# Altium schematic symbol library Diode.SchLib: 578 symbols (part 4 of 4)
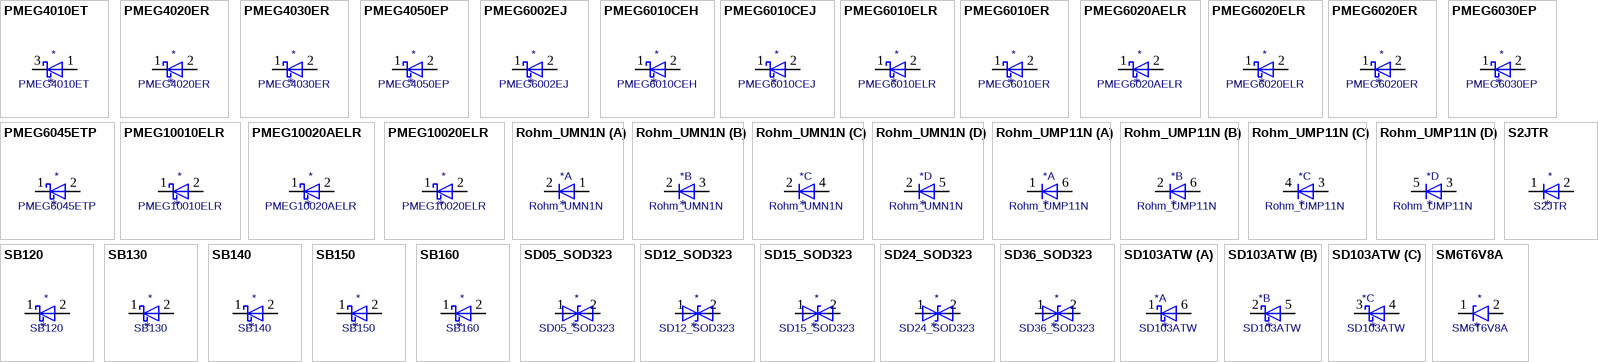
[diagram p18: symbols PMEG4010ET to SM6T6V8A]

## SB150
designator *  value SB150
ki_keywords: diode Schottky; ki_description: 50V 1A Schottky Barrier Rectifier Diode, DO-41; ki_fp_filters: D*DO?41*; Footprint: Diode_THT:D_DO-41_SOD81_P10.16mm_Horizontal; Supplier: http://www.diodes.com/_files/datasheets/ds23022.pdf
footprint D_DO-41_SOD81_P10.16mm_Horizontal
pins: 1 K, 2 A

## SB160
designator *  value SB160
ki_keywords: diode Schottky; ki_description: 60V 1A Schottky Barrier Rectifier Diode, DO-41; ki_fp_filters: D*DO?41*; Footprint: Diode_THT:D_DO-41_SOD81_P10.16mm_Horizontal; Supplier: http://www.diodes.com/_files/datasheets/ds23022.pdf
footprint D_DO-41_SOD81_P10.16mm_Horizontal
pins: 1 K, 2 A

## SD05_SOD323
designator *  value SD05_SOD323
ki_keywords: transient voltage suppressor thyrector transil; ki_description: 5V, 450W Discrete Bidirectional TVS Diode, SOD-323; ki_fp_filters: D?SOD?323*; Footprint: Diode_SMD:D_SOD-323; Supplier: https://www.littelfuse.com/~/media/electronics/datasheets/tvs_diode_arrays/littelfuse_tvs_diode_array_sd_c_datasheet.pdf.pdf
footprint D_SOD-323
pins: 1 A1, 2 A2

## SD12_SOD323
designator *  value SD12_SOD323
ki_keywords: transient voltage suppressor thyrector transil; ki_description: 12V, 450W Discrete Bidirectional TVS Diode, SOD-323; ki_fp_filters: D?SOD?323*; Footprint: Diode_SMD:D_SOD-323; Supplier: https://www.littelfuse.com/~/media/electronics/datasheets/tvs_diode_arrays/littelfuse_tvs_diode_array_sd_c_datasheet.pdf.pdf
footprint D_SOD-323
pins: 1 A1, 2 A2

## SD15_SOD323
designator *  value SD15_SOD323
ki_keywords: transient voltage suppressor thyrector transil; ki_description: 15V, 450W Discrete Bidirectional TVS Diode, SOD-323; ki_fp_filters: D?SOD?323*; Footprint: Diode_SMD:D_SOD-323; Supplier: https://www.littelfuse.com/~/media/electronics/datasheets/tvs_diode_arrays/littelfuse_tvs_diode_array_sd_c_datasheet.pdf.pdf
footprint D_SOD-323
pins: 1 A1, 2 A2

## SD24_SOD323
designator *  value SD24_SOD323
ki_keywords: transient voltage suppressor thyrector transil; ki_description: 24V, 450W Discrete Bidirectional TVS Diode, SOD-323; ki_fp_filters: D?SOD?323*; Footprint: Diode_SMD:D_SOD-323; Supplier: https://www.littelfuse.com/~/media/electronics/datasheets/tvs_diode_arrays/littelfuse_tvs_diode_array_sd_c_datasheet.pdf.pdf
footprint D_SOD-323
pins: 1 A1, 2 A2

## SD36_SOD323
designator *  value SD36_SOD323
ki_keywords: transient voltage suppressor thyrector transil; ki_description: 36V, 450W Discrete Bidirectional TVS Diode, SOD-323; ki_fp_filters: D?SOD?323*; Footprint: Diode_SMD:D_SOD-323; Supplier: https://www.littelfuse.com/~/media/electronics/datasheets/tvs_diode_arrays/littelfuse_tvs_diode_array_sd_c_datasheet.pdf.pdf
footprint D_SOD-323
pins: 1 A1, 2 A2

## SD103ATW
designator *  value SD103ATW
ki_keywords: schottky barrier diode array; ki_description: Schottky Barrier Diode Array, SOT-363; ki_fp_filters: SOT?363*; Footprint: Package_TO_SOT_SMD:SOT-363_SC-70-6; Supplier: https://www.diodes.com/assets/Datasheets/ds30374.pdf
footprint SOT-363_SC-70-6
part A pins: 1 K, 6 A
part B pins: 2 K, 5 A
part C pins: 3 K, 4 A

## SM6T6V8A
designator *  value SM6T6V8A
ki_keywords: diode TVS voltage suppressor; ki_description: 600W unidirectional Transil Transient Voltage Suppressor, 6.8Vrwm, DO-214AA; ki_fp_filters: D*SMB*; Footprint: Diode_SMD:D_SMB; Supplier: https://www.st.com/resource/en/datasheet/sm6t.pdf
footprint D_SMB
pins: 1 A1, 2 A2

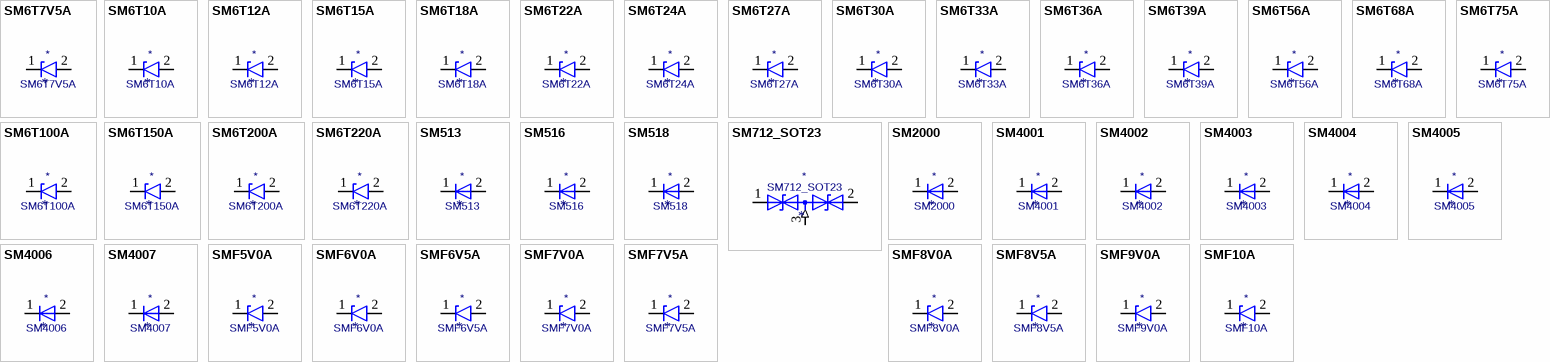
[diagram p13: symbols SM6T7V5A to SMF10A]

## SM6T7V5A
designator *  value SM6T7V5A
ki_keywords: diode TVS voltage suppressor; ki_description: 600W unidirectional Transil Transient Voltage Suppressor, 7.5Vrwm, DO-214AA; ki_fp_filters: D*SMB*; Footprint: Diode_SMD:D_SMB; Supplier: https://www.st.com/resource/en/datasheet/sm6t.pdf
footprint D_SMB
pins: 1 A1, 2 A2

## SM6T10A
designator *  value SM6T10A
ki_keywords: diode TVS voltage suppressor; ki_description: 600W unidirectional Transil Transient Voltage Suppressor, 10Vrwm, DO-214AA; ki_fp_filters: D*SMB*; Footprint: Diode_SMD:D_SMB; Supplier: https://www.st.com/resource/en/datasheet/sm6t.pdf
footprint D_SMB
pins: 1 A1, 2 A2

## SM6T12A
designator *  value SM6T12A
ki_keywords: diode TVS voltage suppressor; ki_description: 600W unidirectional Transil Transient Voltage Suppressor, 12Vrwm, DO-214AA; ki_fp_filters: D*SMB*; Footprint: Diode_SMD:D_SMB; Supplier: https://www.st.com/resource/en/datasheet/sm6t.pdf
footprint D_SMB
pins: 1 A1, 2 A2

## SM6T15A
designator *  value SM6T15A
ki_keywords: diode TVS voltage suppressor; ki_description: 600W unidirectional Transil Transient Voltage Suppressor, 15Vrwm, DO-214AA; ki_fp_filters: D*SMB*; Footprint: Diode_SMD:D_SMB; Supplier: https://www.st.com/resource/en/datasheet/sm6t.pdf
footprint D_SMB
pins: 1 A1, 2 A2

## SM6T18A
designator *  value SM6T18A
ki_keywords: diode TVS voltage suppressor; ki_description: 600W unidirectional Transil Transient Voltage Suppressor, 18Vrwm, DO-214AA; ki_fp_filters: D*SMB*; Footprint: Diode_SMD:D_SMB; Supplier: https://www.st.com/resource/en/datasheet/sm6t.pdf
footprint D_SMB
pins: 1 A1, 2 A2

## SM6T22A
designator *  value SM6T22A
ki_keywords: diode TVS voltage suppressor; ki_description: 600W unidirectional Transil Transient Voltage Suppressor, 22Vrwm, DO-214AA; ki_fp_filters: D*SMB*; Footprint: Diode_SMD:D_SMB; Supplier: https://www.st.com/resource/en/datasheet/sm6t.pdf
footprint D_SMB
pins: 1 A1, 2 A2

## SM6T24A
designator *  value SM6T24A
ki_keywords: diode TVS voltage suppressor; ki_description: 600W unidirectional Transil Transient Voltage Suppressor, 24Vrwm, DO-214AA; ki_fp_filters: D*SMB*; Footprint: Diode_SMD:D_SMB; Supplier: https://www.st.com/resource/en/datasheet/sm6t.pdf
footprint D_SMB
pins: 1 A1, 2 A2

## SM6T27A
designator *  value SM6T27A
ki_keywords: diode TVS voltage suppressor; ki_description: 600W unidirectional Transil Transient Voltage Suppressor, 27Vrwm, DO-214AA; ki_fp_filters: D*SMB*; Footprint: Diode_SMD:D_SMB; Supplier: https://www.st.com/resource/en/datasheet/sm6t.pdf
footprint D_SMB
pins: 1 A1, 2 A2

## SM6T30A
designator *  value SM6T30A
ki_keywords: diode TVS voltage suppressor; ki_description: 600W unidirectional Transil Transient Voltage Suppressor, 30Vrwm, DO-214AA; ki_fp_filters: D*SMB*; Footprint: Diode_SMD:D_SMB; Supplier: https://www.st.com/resource/en/datasheet/sm6t.pdf
footprint D_SMB
pins: 1 A1, 2 A2

## SM6T33A
designator *  value SM6T33A
ki_keywords: diode TVS voltage suppressor; ki_description: 600W unidirectional Transil Transient Voltage Suppressor, 33Vrwm, DO-214AA; ki_fp_filters: D*SMB*; Footprint: Diode_SMD:D_SMB; Supplier: https://www.st.com/resource/en/datasheet/sm6t.pdf
footprint D_SMB
pins: 1 A1, 2 A2

## SM6T36A
designator *  value SM6T36A
ki_keywords: diode TVS voltage suppressor; ki_description: 600W unidirectional Transil Transient Voltage Suppressor, 36Vrwm, DO-214AA; ki_fp_filters: D*SMB*; Footprint: Diode_SMD:D_SMB; Supplier: https://www.st.com/resource/en/datasheet/sm6t.pdf
footprint D_SMB
pins: 1 A1, 2 A2

## SM6T39A
designator *  value SM6T39A
ki_keywords: diode TVS voltage suppressor; ki_description: 600W unidirectional Transil Transient Voltage Suppressor, 39Vrwm, DO-214AA; ki_fp_filters: D*SMB*; Footprint: Diode_SMD:D_SMB; Supplier: https://www.st.com/resource/en/datasheet/sm6t.pdf
footprint D_SMB
pins: 1 A1, 2 A2

## SM6T56A
designator *  value SM6T56A
ki_keywords: diode TVS voltage suppressor; ki_description: 600W unidirectional Transil Transient Voltage Suppressor, 56Vrwm, DO-214AA; ki_fp_filters: D*SMB*; Footprint: Diode_SMD:D_SMB; Supplier: https://www.st.com/resource/en/datasheet/sm6t.pdf
footprint D_SMB
pins: 1 A1, 2 A2

## SM6T68A
designator *  value SM6T68A
ki_keywords: diode TVS voltage suppressor; ki_description: 600W unidirectional Transil Transient Voltage Suppressor, 68Vrwm, DO-214AA; ki_fp_filters: D*SMB*; Footprint: Diode_SMD:D_SMB; Supplier: https://www.st.com/resource/en/datasheet/sm6t.pdf
footprint D_SMB
pins: 1 A1, 2 A2

## SM6T75A
designator *  value SM6T75A
ki_keywords: diode TVS voltage suppressor; ki_description: 600W unidirectional Transil Transient Voltage Suppressor, 75Vrwm, DO-214AA; ki_fp_filters: D*SMB*; Footprint: Diode_SMD:D_SMB; Supplier: https://www.st.com/resource/en/datasheet/sm6t.pdf
footprint D_SMB
pins: 1 A1, 2 A2

## SM6T100A
designator *  value SM6T100A
ki_keywords: diode TVS voltage suppressor; ki_description: 600W unidirectional Transil Transient Voltage Suppressor, 100Vrwm, DO-214AA; ki_fp_filters: D*SMB*; Footprint: Diode_SMD:D_SMB; Supplier: https://www.st.com/resource/en/datasheet/sm6t.pdf
footprint D_SMB
pins: 1 A1, 2 A2

## SM6T150A
designator *  value SM6T150A
ki_keywords: diode TVS voltage suppressor; ki_description: 600W unidirectional Transil Transient Voltage Suppressor, 150Vrwm, DO-214AA; ki_fp_filters: D*SMB*; Footprint: Diode_SMD:D_SMB; Supplier: https://www.st.com/resource/en/datasheet/sm6t.pdf
footprint D_SMB
pins: 1 A1, 2 A2

## SM6T200A
designator *  value SM6T200A
ki_keywords: diode TVS voltage suppressor; ki_description: 600W unidirectional Transil Transient Voltage Suppressor, 200Vrwm, DO-214AA; ki_fp_filters: D*SMB*; Footprint: Diode_SMD:D_SMB; Supplier: https://www.st.com/resource/en/datasheet/sm6t.pdf
footprint D_SMB
pins: 1 A1, 2 A2

## SM6T220A
designator *  value SM6T220A
ki_keywords: diode TVS voltage suppressor; ki_description: 600W unidirectional Transil Transient Voltage Suppressor, 220Vrwm, DO-214AA; ki_fp_filters: D*SMB*; Footprint: Diode_SMD:D_SMB; Supplier: https://www.st.com/resource/en/datasheet/sm6t.pdf
footprint D_SMB
pins: 1 A1, 2 A2

## SM513
designator *  value SM513
ki_keywords: diode; ki_description: 130V 1A General Purpose Rectifier Diode, MELF; ki_fp_filters: D*MELF*; Footprint: Diode_SMD:D_MELF; Supplier: http://cdn-reichelt.de/documents/datenblatt/A400/SMD1N400%23DIO.pdf
footprint D_MELF
pins: 1 K, 2 A

## SM516
designator *  value SM516
ki_keywords: diode; ki_description: 1600V 1A General Purpose Rectifier Diode, MELF; ki_fp_filters: D*MELF*; Footprint: Diode_SMD:D_MELF; Supplier: http://cdn-reichelt.de/documents/datenblatt/A400/SMD1N400%23DIO.pdf
footprint D_MELF
pins: 1 K, 2 A

## SM518
designator *  value SM518
ki_keywords: diode; ki_description: 1800V 1A General Purpose Rectifier Diode, MELF; ki_fp_filters: D*MELF*; Footprint: Diode_SMD:D_MELF; Supplier: http://cdn-reichelt.de/documents/datenblatt/A400/SMD1N400%23DIO.pdf
footprint D_MELF
pins: 1 K, 2 A

## SM712_SOT23
designator *  value SM712_SOT23
ki_keywords: transient voltage suppressor thyrector transil; ki_description: 7V/12V, 600W Asymmetrical TVS Diode Array, SOT-23; ki_fp_filters: SOT?23*; Footprint: Package_TO_SOT_SMD:SOT-23; Supplier: https://www.littelfuse.com/~/media/electronics/datasheets/tvs_diode_arrays/littelfuse_tvs_diode_array_sm712_datasheet.pdf.pdf
footprint SOT-23
pins: 1 A1, 2 A2, 3 common (in)

## SM2000
designator *  value SM2000
ki_keywords: diode; ki_description: 2000V 1A General Purpose Rectifier Diode, MELF; ki_fp_filters: D*MELF*; Footprint: Diode_SMD:D_MELF; Supplier: http://cdn-reichelt.de/documents/datenblatt/A400/SMD1N400%23DIO.pdf
footprint D_MELF
pins: 1 K, 2 A

## SM4001
designator *  value SM4001
ki_keywords: diode; ki_description: 50V 1A General Purpose Rectifier Diode, MELF; ki_fp_filters: D*MELF*; Footprint: Diode_SMD:D_MELF; Supplier: http://cdn-reichelt.de/documents/datenblatt/A400/SMD1N400%23DIO.pdf
footprint D_MELF
pins: 1 K, 2 A

## SM4002
designator *  value SM4002
ki_keywords: diode; ki_description: 100V 1A General Purpose Rectifier Diode, MELF; ki_fp_filters: D*MELF*; Footprint: Diode_SMD:D_MELF; Supplier: http://cdn-reichelt.de/documents/datenblatt/A400/SMD1N400%23DIO.pdf
footprint D_MELF
pins: 1 K, 2 A

## SM4003
designator *  value SM4003
ki_keywords: diode; ki_description: 200V 1A General Purpose Rectifier Diode, MELF; ki_fp_filters: D*MELF*; Footprint: Diode_SMD:D_MELF; Supplier: http://cdn-reichelt.de/documents/datenblatt/A400/SMD1N400%23DIO.pdf
footprint D_MELF
pins: 1 K, 2 A

## SM4004
designator *  value SM4004
ki_keywords: diode; ki_description: 400V 1A General Purpose Rectifier Diode, MELF; ki_fp_filters: D*MELF*; Footprint: Diode_SMD:D_MELF; Supplier: http://cdn-reichelt.de/documents/datenblatt/A400/SMD1N400%23DIO.pdf
footprint D_MELF
pins: 1 K, 2 A

## SM4005
designator *  value SM4005
ki_keywords: diode; ki_description: 600V 1A General Purpose Rectifier Diode, MELF; ki_fp_filters: D*MELF*; Footprint: Diode_SMD:D_MELF; Supplier: http://cdn-reichelt.de/documents/datenblatt/A400/SMD1N400%23DIO.pdf
footprint D_MELF
pins: 1 K, 2 A

## SM4006
designator *  value SM4006
ki_keywords: diode; ki_description: 800V 1A General Purpose Rectifier Diode, MELF; ki_fp_filters: D*MELF*; Footprint: Diode_SMD:D_MELF; Supplier: http://cdn-reichelt.de/documents/datenblatt/A400/SMD1N400%23DIO.pdf
footprint D_MELF
pins: 1 K, 2 A

## SM4007
designator *  value SM4007
ki_keywords: diode; ki_description: 1000V 1A General Purpose Rectifier Diode, MELF; ki_fp_filters: D*MELF*; Footprint: Diode_SMD:D_MELF; Supplier: http://cdn-reichelt.de/documents/datenblatt/A400/SMD1N400%23DIO.pdf
footprint D_MELF
pins: 1 K, 2 A

## SMF5V0A
designator *  value SMF5V0A
ki_keywords: diode TVS voltage suppressor; ki_description: 200W unidirectional Transil Transient Voltage Suppressor, 5Vrwm, SMF; ki_fp_filters: D*SMF*; Footprint: Diode_SMD:D_SMF; Supplier: https://www.vishay.com/doc?85881
footprint D_SMF
pins: 1 A1, 2 A2

## SMF6V0A
designator *  value SMF6V0A
ki_keywords: diode TVS voltage suppressor; ki_description: 200W unidirectional Transil Transient Voltage Suppressor, 6Vrwm, SMF; ki_fp_filters: D*SMF*; Footprint: Diode_SMD:D_SMF; Supplier: https://www.vishay.com/doc?85881
footprint D_SMF
pins: 1 A1, 2 A2

## SMF6V5A
designator *  value SMF6V5A
ki_keywords: diode TVS voltage suppressor; ki_description: 200W unidirectional Transil Transient Voltage Suppressor, 6.5Vrwm, SMF; ki_fp_filters: D*SMF*; Footprint: Diode_SMD:D_SMF; Supplier: https://www.vishay.com/doc?85881
footprint D_SMF
pins: 1 A1, 2 A2

## SMF7V0A
designator *  value SMF7V0A
ki_keywords: diode TVS voltage suppressor; ki_description: 200W unidirectional Transil Transient Voltage Suppressor, 7Vrwm, SMF; ki_fp_filters: D*SMF*; Footprint: Diode_SMD:D_SMF; Supplier: https://www.vishay.com/doc?85881
footprint D_SMF
pins: 1 A1, 2 A2

## SMF7V5A
designator *  value SMF7V5A
ki_keywords: diode TVS voltage suppressor; ki_description: 200W unidirectional Transil Transient Voltage Suppressor, 7.5Vrwm, SMF; ki_fp_filters: D*SMF*; Footprint: Diode_SMD:D_SMF; Supplier: https://www.vishay.com/doc?85881
footprint D_SMF
pins: 1 A1, 2 A2

## SMF8V0A
designator *  value SMF8V0A
ki_keywords: diode TVS voltage suppressor; ki_description: 200W unidirectional Transil Transient Voltage Suppressor, 8Vrwm, SMF; ki_fp_filters: D*SMF*; Footprint: Diode_SMD:D_SMF; Supplier: https://www.vishay.com/doc?85881
footprint D_SMF
pins: 1 A1, 2 A2

## SMF8V5A
designator *  value SMF8V5A
ki_keywords: diode TVS voltage suppressor; ki_description: 200W unidirectional Transil Transient Voltage Suppressor, 8.5Vrwm, SMF; ki_fp_filters: D*SMF*; Footprint: Diode_SMD:D_SMF; Supplier: https://www.vishay.com/doc?85881
footprint D_SMF
pins: 1 A1, 2 A2

## SMF9V0A
designator *  value SMF9V0A
ki_keywords: diode TVS voltage suppressor; ki_description: 200W unidirectional Transil Transient Voltage Suppressor, 9Vrwm, SMF; ki_fp_filters: D*SMF*; Footprint: Diode_SMD:D_SMF; Supplier: https://www.vishay.com/doc?85881
footprint D_SMF
pins: 1 A1, 2 A2

## SMF10A
designator *  value SMF10A
ki_keywords: diode TVS voltage suppressor; ki_description: 200W unidirectional Transil Transient Voltage Suppressor, 10Vrwm, SMF; ki_fp_filters: D*SMF*; Footprint: Diode_SMD:D_SMF; Supplier: https://www.vishay.com/doc?85881
footprint D_SMF
pins: 1 A1, 2 A2

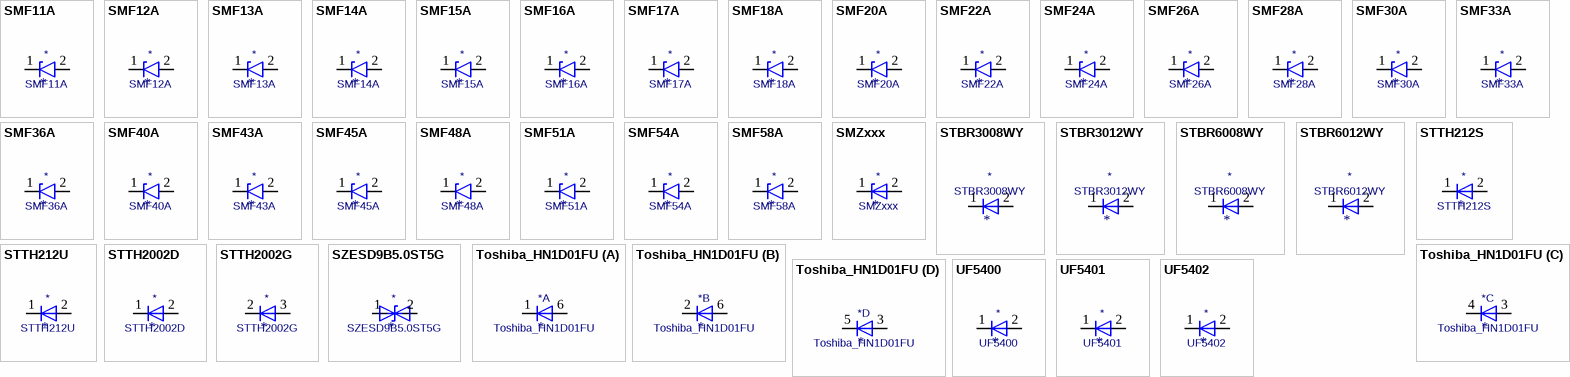
[diagram p14: symbols SMF11A to UF5402]

## SMF11A
designator *  value SMF11A
ki_keywords: diode TVS voltage suppressor; ki_description: 200W unidirectional Transil Transient Voltage Suppressor, 11Vrwm, SMF; ki_fp_filters: D*SMF*; Footprint: Diode_SMD:D_SMF; Supplier: https://www.vishay.com/doc?85881
footprint D_SMF
pins: 1 A1, 2 A2

## SMF12A
designator *  value SMF12A
ki_keywords: diode TVS voltage suppressor; ki_description: 200W unidirectional Transil Transient Voltage Suppressor, 12Vrwm, SMF; ki_fp_filters: D*SMF*; Footprint: Diode_SMD:D_SMF; Supplier: https://www.vishay.com/doc?85881
footprint D_SMF
pins: 1 A1, 2 A2

## SMF13A
designator *  value SMF13A
ki_keywords: diode TVS voltage suppressor; ki_description: 200W unidirectional Transil Transient Voltage Suppressor, 13Vrwm, SMF; ki_fp_filters: D*SMF*; Footprint: Diode_SMD:D_SMF; Supplier: https://www.vishay.com/doc?85881
footprint D_SMF
pins: 1 A1, 2 A2

## SMF14A
designator *  value SMF14A
ki_keywords: diode TVS voltage suppressor; ki_description: 200W unidirectional Transil Transient Voltage Suppressor, 14Vrwm, SMF; ki_fp_filters: D*SMF*; Footprint: Diode_SMD:D_SMF; Supplier: https://www.vishay.com/doc?85881
footprint D_SMF
pins: 1 A1, 2 A2

## SMF15A
designator *  value SMF15A
ki_keywords: diode TVS voltage suppressor; ki_description: 200W unidirectional Transil Transient Voltage Suppressor, 15Vrwm, SMF; ki_fp_filters: D*SMF*; Footprint: Diode_SMD:D_SMF; Supplier: https://www.vishay.com/doc?85881
footprint D_SMF
pins: 1 A1, 2 A2

## SMF16A
designator *  value SMF16A
ki_keywords: diode TVS voltage suppressor; ki_description: 200W unidirectional Transil Transient Voltage Suppressor, 16Vrwm, SMF; ki_fp_filters: D*SMF*; Footprint: Diode_SMD:D_SMF; Supplier: https://www.vishay.com/doc?85881
footprint D_SMF
pins: 1 A1, 2 A2

## SMF17A
designator *  value SMF17A
ki_keywords: diode TVS voltage suppressor; ki_description: 200W unidirectional Transil Transient Voltage Suppressor, 17Vrwm, SMF; ki_fp_filters: D*SMF*; Footprint: Diode_SMD:D_SMF; Supplier: https://www.vishay.com/doc?85881
footprint D_SMF
pins: 1 A1, 2 A2

## SMF18A
designator *  value SMF18A
ki_keywords: diode TVS voltage suppressor; ki_description: 200W unidirectional Transil Transient Voltage Suppressor, 18Vrwm, SMF; ki_fp_filters: D*SMF*; Footprint: Diode_SMD:D_SMF; Supplier: https://www.vishay.com/doc?85881
footprint D_SMF
pins: 1 A1, 2 A2

## SMF20A
designator *  value SMF20A
ki_keywords: diode TVS voltage suppressor; ki_description: 200W unidirectional Transil Transient Voltage Suppressor, 20Vrwm, SMF; ki_fp_filters: D*SMF*; Footprint: Diode_SMD:D_SMF; Supplier: https://www.vishay.com/doc?85881
footprint D_SMF
pins: 1 A1, 2 A2

## SMF22A
designator *  value SMF22A
ki_keywords: diode TVS voltage suppressor; ki_description: 200W unidirectional Transil Transient Voltage Suppressor, 22Vrwm, SMF; ki_fp_filters: D*SMF*; Footprint: Diode_SMD:D_SMF; Supplier: https://www.vishay.com/doc?85881
footprint D_SMF
pins: 1 A1, 2 A2

## SMF24A
designator *  value SMF24A
ki_keywords: diode TVS voltage suppressor; ki_description: 200W unidirectional Transil Transient Voltage Suppressor, 24Vrwm, SMF; ki_fp_filters: D*SMF*; Footprint: Diode_SMD:D_SMF; Supplier: https://www.vishay.com/doc?85881
footprint D_SMF
pins: 1 A1, 2 A2

## SMF26A
designator *  value SMF26A
ki_keywords: diode TVS voltage suppressor; ki_description: 200W unidirectional Transil Transient Voltage Suppressor, 26Vrwm, SMF; ki_fp_filters: D*SMF*; Footprint: Diode_SMD:D_SMF; Supplier: https://www.vishay.com/doc?85881
footprint D_SMF
pins: 1 A1, 2 A2

## SMF28A
designator *  value SMF28A
ki_keywords: diode TVS voltage suppressor; ki_description: 200W unidirectional Transil Transient Voltage Suppressor, 28Vrwm, SMF; ki_fp_filters: D*SMF*; Footprint: Diode_SMD:D_SMF; Supplier: https://www.vishay.com/doc?85881
footprint D_SMF
pins: 1 A1, 2 A2

## SMF30A
designator *  value SMF30A
ki_keywords: diode TVS voltage suppressor; ki_description: 200W unidirectional Transil Transient Voltage Suppressor, 30Vrwm, SMF; ki_fp_filters: D*SMF*; Footprint: Diode_SMD:D_SMF; Supplier: https://www.vishay.com/doc?85881
footprint D_SMF
pins: 1 A1, 2 A2

## SMF33A
designator *  value SMF33A
ki_keywords: diode TVS voltage suppressor; ki_description: 200W unidirectional Transil Transient Voltage Suppressor, 33Vrwm, SMF; ki_fp_filters: D*SMF*; Footprint: Diode_SMD:D_SMF; Supplier: https://www.vishay.com/doc?85881
footprint D_SMF
pins: 1 A1, 2 A2

## SMF36A
designator *  value SMF36A
ki_keywords: diode TVS voltage suppressor; ki_description: 200W unidirectional Transil Transient Voltage Suppressor, 36Vrwm, SMF; ki_fp_filters: D*SMF*; Footprint: Diode_SMD:D_SMF; Supplier: https://www.vishay.com/doc?85881
footprint D_SMF
pins: 1 A1, 2 A2

## SMF40A
designator *  value SMF40A
ki_keywords: diode TVS voltage suppressor; ki_description: 200W unidirectional Transil Transient Voltage Suppressor, 40Vrwm, SMF; ki_fp_filters: D*SMF*; Footprint: Diode_SMD:D_SMF; Supplier: https://www.vishay.com/doc?85881
footprint D_SMF
pins: 1 A1, 2 A2

## SMF43A
designator *  value SMF43A
ki_keywords: diode TVS voltage suppressor; ki_description: 200W unidirectional Transil Transient Voltage Suppressor, 43Vrwm, SMF; ki_fp_filters: D*SMF*; Footprint: Diode_SMD:D_SMF; Supplier: https://www.vishay.com/doc?85881
footprint D_SMF
pins: 1 A1, 2 A2

## SMF45A
designator *  value SMF45A
ki_keywords: diode TVS voltage suppressor; ki_description: 200W unidirectional Transil Transient Voltage Suppressor, 45Vrwm, SMF; ki_fp_filters: D*SMF*; Footprint: Diode_SMD:D_SMF; Supplier: https://www.vishay.com/doc?85881
footprint D_SMF
pins: 1 A1, 2 A2

## SMF48A
designator *  value SMF48A
ki_keywords: diode TVS voltage suppressor; ki_description: 200W unidirectional Transil Transient Voltage Suppressor, 48Vrwm, SMF; ki_fp_filters: D*SMF*; Footprint: Diode_SMD:D_SMF; Supplier: https://www.vishay.com/doc?85881
footprint D_SMF
pins: 1 A1, 2 A2

## SMF51A
designator *  value SMF51A
ki_keywords: diode TVS voltage suppressor; ki_description: 200W unidirectional Transil Transient Voltage Suppressor, 51Vrwm, SMF; ki_fp_filters: D*SMF*; Footprint: Diode_SMD:D_SMF; Supplier: https://www.vishay.com/doc?85881
footprint D_SMF
pins: 1 A1, 2 A2

## SMF54A
designator *  value SMF54A
ki_keywords: diode TVS voltage suppressor; ki_description: 200W unidirectional Transil Transient Voltage Suppressor, 54Vrwm, SMF; ki_fp_filters: D*SMF*; Footprint: Diode_SMD:D_SMF; Supplier: https://www.vishay.com/doc?85881
footprint D_SMF
pins: 1 A1, 2 A2

## SMF58A
designator *  value SMF58A
ki_keywords: diode TVS voltage suppressor; ki_description: 200W unidirectional Transil Transient Voltage Suppressor, 58Vrwm, SMF; ki_fp_filters: D*SMF*; Footprint: Diode_SMD:D_SMF; Supplier: https://www.vishay.com/doc?85881
footprint D_SMF
pins: 1 A1, 2 A2

## SMZxxx
designator *  value SMZxxx
ki_keywords: zener diode; ki_description: 2000mW Zener Diode, MELF; ki_fp_filters: D*MELF*; Footprint: Diode_SMD:D_MELF; Supplier: https://diotec.com/tl_files/diotec/files/pdf/datasheets/smz1.pdf
footprint D_MELF
pins: 1 K, 2 A

## STBR3008WY
designator *  value STBR3008WY
ki_keywords: AEC-Q101; ki_description: 800V, 30A, General Purpose Rectifier Diode, DO-247; ki_fp_filters: D*DO*247*; Footprint: Diode_THT:D_DO-247_Vertical; Supplier: https://www.st.com/resource/en/datasheet/stbr3008-y.pdf
footprint D_DO-247_Vertical
pins: 1 K, 2 A

## STBR3012WY
designator *  value STBR3012WY
ki_keywords: AEC-Q101; ki_description: 1200V, 30A, General Purpose Rectifier Diode, DO-247; ki_fp_filters: D*DO*247*; Footprint: Diode_THT:D_DO-247_Vertical; Supplier: https://www.st.com/resource/en/datasheet/stbr3012-y.pdf
footprint D_DO-247_Vertical
pins: 1 K, 2 A

## STBR6008WY
designator *  value STBR6008WY
ki_keywords: AEC-Q101; ki_description: 800V, 60A, General Purpose Rectifier Diode, DO-247; ki_fp_filters: D*DO*247*; Footprint: Diode_THT:D_DO-247_Vertical; Supplier: https://www.st.com/resource/en/datasheet/stbr6008-y.pdf
footprint D_DO-247_Vertical
pins: 1 K, 2 A

## STBR6012WY
designator *  value STBR6012WY
ki_keywords: AEC-Q101; ki_description: 1200V, 60A, General Purpose Rectifier Diode, DO-247; ki_fp_filters: D*DO*247*; Footprint: Diode_THT:D_DO-247_Vertical; Supplier: https://www.st.com/resource/en/datasheet/stbr6012-y.pdf
footprint D_DO-247_Vertical
pins: 1 K, 2 A

## STTH212S
designator *  value STTH212S
ki_keywords: diode; ki_description: 1200V 2A High Voltage Ultrafast Diode, SMC; ki_fp_filters: D?SMC*; Footprint: Diode_SMD:D_SMC; Supplier: https://www.st.com/resource/en/datasheet/stth212.pdf
footprint D_SMC
pins: 1 K, 2 A

## STTH212U
designator *  value STTH212U
ki_keywords: diode; ki_description: 1200V 2A High Voltage Ultrafast Diode, SMB; ki_fp_filters: *D?SMB*; Footprint: Diode_SMD:D_SMB; Supplier: https://www.st.com/resource/en/datasheet/stth212.pdf
footprint D_SMB
pins: 1 K, 2 A

## STTH2002D
designator *  value STTH2002D
ki_keywords: diode; ki_description: 200V 20A Ultrafast Recovery Diode, TO-220; ki_fp_filters: TO?220*2*; Footprint: Package_TO_SOT_THT:TO-220-2_Vertical; Supplier: https://www.st.com/resource/en/datasheet/stth2002.pdf
footprint TO-220-2_Vertical
pins: 1 K, 2 A, 3 NC (in) hidden

## STTH2002G
designator *  value STTH2002G
ki_keywords: diode; ki_description: 200V 20A Ultrafast Recovery Diode, TO-263; ki_fp_filters: TO?263*; Footprint: Package_TO_SOT_SMD:TO-263-2; Supplier: https://www.st.com/resource/en/datasheet/stth2002.pdf
footprint TO-263-2
pins: 1 NC (in) hidden, 2 K, 3 A

## SZESD9B5.0ST5G
designator *  value SZESD9B5.0ST5G
ki_keywords: diode TVS ESD; ki_description: ESD protection diode, 5.0Vrwm, SOD-923; ki_fp_filters: D*SOD?923*; Footprint: Diode_SMD:D_SOD-923; Supplier: https://www.onsemi.com/pub/Collateral/ESD9B-D.PDF
footprint D_SOD-923
pins: 1 A1, 2 A2

## Toshiba_HN1D01FU
designator *  value Toshiba_HN1D01FU
ki_keywords: diode; ki_description: Ultra High Speed Switching Diode Array 2 pair Com A; ki_fp_filters: SOT?363*; Footprint: Package_TO_SOT_SMD:SOT-363_SC-70-6; Supplier: http://www.toshiba.com/taec/components2/Datasheet_Sync/200901/DST_HN1D01FU-TDE_EN_1882.pdf
footprint SOT-363_SC-70-6
part A pins: 1 K, 6 A
part B pins: 2 K, 6 A
part C pins: 3 A, 4 K
part D pins: 3 A, 5 K

## UF5400
designator *  value UF5400
ki_keywords: diode; ki_description: 50V 3A Soft Recovery Ultrafast Rectifier Diode, DO-201AD; ki_fp_filters: D*DO?201AD*; Footprint: Diode_THT:D_DO-201AD_P15.24mm_Horizontal; Supplier: http://www.vishay.com/docs/88756/uf5400.pdf
footprint D_DO-201AD_P15.24mm_Horizontal
pins: 1 K, 2 A

## UF5401
designator *  value UF5401
ki_keywords: diode; ki_description: 100V 3A Soft Recovery Ultrafast Rectifier Diode, DO-201AD; ki_fp_filters: D*DO?201AD*; Footprint: Diode_THT:D_DO-201AD_P15.24mm_Horizontal; Supplier: http://www.vishay.com/docs/88756/uf5400.pdf
footprint D_DO-201AD_P15.24mm_Horizontal
pins: 1 K, 2 A

## UF5402
designator *  value UF5402
ki_keywords: diode; ki_description: 200V 3A Soft Recovery Ultrafast Rectifier Diode, DO-201AD; ki_fp_filters: D*DO?201AD*; Footprint: Diode_THT:D_DO-201AD_P15.24mm_Horizontal; Supplier: http://www.vishay.com/docs/88756/uf5400.pdf
footprint D_DO-201AD_P15.24mm_Horizontal
pins: 1 K, 2 A

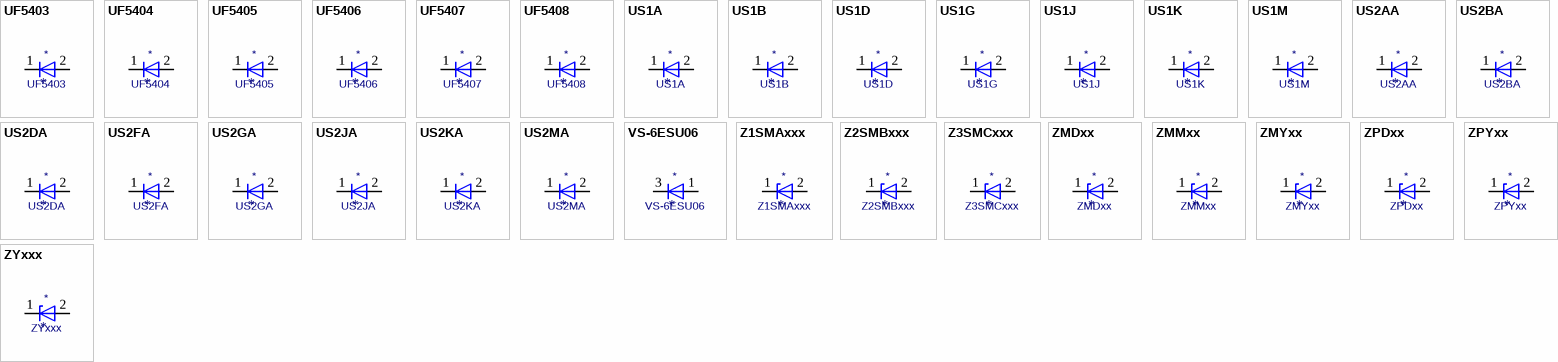
[diagram p15: symbols UF5403 to ZYxxx]

## UF5403
designator *  value UF5403
ki_keywords: diode; ki_description: 300V 3A Soft Recovery Ultrafast Rectifier Diode, DO-201AD; ki_fp_filters: D*DO?201AD*; Footprint: Diode_THT:D_DO-201AD_P15.24mm_Horizontal; Supplier: http://www.vishay.com/docs/88756/uf5400.pdf
footprint D_DO-201AD_P15.24mm_Horizontal
pins: 1 K, 2 A

## UF5404
designator *  value UF5404
ki_keywords: diode; ki_description: 400V 3A Soft Recovery Ultrafast Rectifier Diode, DO-201AD; ki_fp_filters: D*DO?201AD*; Footprint: Diode_THT:D_DO-201AD_P15.24mm_Horizontal; Supplier: http://www.vishay.com/docs/88756/uf5400.pdf
footprint D_DO-201AD_P15.24mm_Horizontal
pins: 1 K, 2 A

## UF5405
designator *  value UF5405
ki_keywords: diode; ki_description: 500V 3A Soft Recovery Ultrafast Rectifier Diode, DO-201AD; ki_fp_filters: D*DO?201AD*; Footprint: Diode_THT:D_DO-201AD_P15.24mm_Horizontal; Supplier: http://www.vishay.com/docs/88756/uf5400.pdf
footprint D_DO-201AD_P15.24mm_Horizontal
pins: 1 K, 2 A

## UF5406
designator *  value UF5406
ki_keywords: diode; ki_description: 600V 3A Soft Recovery Ultrafast Rectifier Diode, DO-201AD; ki_fp_filters: D*DO?201AD*; Footprint: Diode_THT:D_DO-201AD_P15.24mm_Horizontal; Supplier: http://www.vishay.com/docs/88756/uf5400.pdf
footprint D_DO-201AD_P15.24mm_Horizontal
pins: 1 K, 2 A

## UF5407
designator *  value UF5407
ki_keywords: diode; ki_description: 800V 3A Soft Recovery Ultrafast Rectifier Diode, DO-201AD; ki_fp_filters: D*DO?201AD*; Footprint: Diode_THT:D_DO-201AD_P15.24mm_Horizontal; Supplier: http://www.vishay.com/docs/88756/uf5400.pdf
footprint D_DO-201AD_P15.24mm_Horizontal
pins: 1 K, 2 A

## UF5408
designator *  value UF5408
ki_keywords: diode; ki_description: 1000V 3A Soft Recovery Ultrafast Rectifier Diode, DO-201AD; ki_fp_filters: D*DO?201AD*; Footprint: Diode_THT:D_DO-201AD_P15.24mm_Horizontal; Supplier: http://www.vishay.com/docs/88756/uf5400.pdf
footprint D_DO-201AD_P15.24mm_Horizontal
pins: 1 K, 2 A

## US1A
designator *  value US1A
ki_keywords: Ultra Fast; ki_description: 50V, 1A, General Purpose Rectifier Diode, SMA(DO-214AC); ki_fp_filters: D*SMA*; Footprint: Diode_SMD:D_SMA; Supplier: https://www.diodes.com/assets/Datasheets/ds16008.pdf
footprint D_SMA
pins: 1 K, 2 A

## US1B
designator *  value US1B
ki_keywords: Ultra Fast; ki_description: 100V, 1A, General Purpose Rectifier Diode, SMA(DO-214AC); ki_fp_filters: D*SMA*; Footprint: Diode_SMD:D_SMA; Supplier: https://www.diodes.com/assets/Datasheets/ds16008.pdf
footprint D_SMA
pins: 1 K, 2 A

## US1D
designator *  value US1D
ki_keywords: Ultra Fast; ki_description: 200V, 1A, General Purpose Rectifier Diode, SMA(DO-214AC); ki_fp_filters: D*SMA*; Footprint: Diode_SMD:D_SMA; Supplier: https://www.diodes.com/assets/Datasheets/ds16008.pdf
footprint D_SMA
pins: 1 K, 2 A

## US1G
designator *  value US1G
ki_keywords: Ultra Fast; ki_description: 400V, 1A, General Purpose Rectifier Diode, SMA(DO-214AC); ki_fp_filters: D*SMA*; Footprint: Diode_SMD:D_SMA; Supplier: https://www.diodes.com/assets/Datasheets/ds16008.pdf
footprint D_SMA
pins: 1 K, 2 A

## US1J
designator *  value US1J
ki_keywords: Ultra Fast; ki_description: 600V, 1A, General Purpose Rectifier Diode, SMA(DO-214AC); ki_fp_filters: D*SMA*; Footprint: Diode_SMD:D_SMA; Supplier: https://www.diodes.com/assets/Datasheets/ds16008.pdf
footprint D_SMA
pins: 1 K, 2 A

## US1K
designator *  value US1K
ki_keywords: Ultra Fast; ki_description: 800V, 1A, General Purpose Rectifier Diode, SMA(DO-214AC); ki_fp_filters: D*SMA*; Footprint: Diode_SMD:D_SMA; Supplier: https://www.diodes.com/assets/Datasheets/ds16008.pdf
footprint D_SMA
pins: 1 K, 2 A

## US1M
designator *  value US1M
ki_keywords: Ultra Fast; ki_description: 1000V, 1A, General Purpose Rectifier Diode, SMA(DO-214AC); ki_fp_filters: D*SMA*; Footprint: Diode_SMD:D_SMA; Supplier: https://www.diodes.com/assets/Datasheets/ds16008.pdf
footprint D_SMA
pins: 1 K, 2 A

## US2AA
designator *  value US2AA
ki_keywords: Super Fast; ki_description: 50V, 1.5A, General Purpose Rectifier Diode, SMA(DO-214AC); ki_fp_filters: D*SMA*; Footprint: Diode_SMD:D_SMA; Supplier: https://www.onsemi.com/pub/Collateral/US2AA-D.PDF
footprint D_SMA
pins: 1 K, 2 A

## US2BA
designator *  value US2BA
ki_keywords: Super Fast; ki_description: 100V, 1.5A, General Purpose Rectifier Diode, SMA(DO-214AC); ki_fp_filters: D*SMA*; Footprint: Diode_SMD:D_SMA; Supplier: https://www.onsemi.com/pub/Collateral/US2AA-D.PDF
footprint D_SMA
pins: 1 K, 2 A

## US2DA
designator *  value US2DA
ki_keywords: Super Fast; ki_description: 200V, 1.5A, General Purpose Rectifier Diode, SMA(DO-214AC); ki_fp_filters: D*SMA*; Footprint: Diode_SMD:D_SMA; Supplier: https://www.onsemi.com/pub/Collateral/US2AA-D.PDF
footprint D_SMA
pins: 1 K, 2 A

## US2FA
designator *  value US2FA
ki_keywords: Super Fast; ki_description: 300V, 1.5A, General Purpose Rectifier Diode, SMA(DO-214AC); ki_fp_filters: D*SMA*; Footprint: Diode_SMD:D_SMA; Supplier: https://www.onsemi.com/pub/Collateral/US2AA-D.PDF
footprint D_SMA
pins: 1 K, 2 A

## US2GA
designator *  value US2GA
ki_keywords: Super Fast; ki_description: 400V, 1.5A, General Purpose Rectifier Diode, SMA(DO-214AC); ki_fp_filters: D*SMA*; Footprint: Diode_SMD:D_SMA; Supplier: https://www.onsemi.com/pub/Collateral/US2AA-D.PDF
footprint D_SMA
pins: 1 K, 2 A

## US2JA
designator *  value US2JA
ki_keywords: Super Fast; ki_description: 600V, 1.5A, General Purpose Rectifier Diode, SMA(DO-214AC); ki_fp_filters: D*SMA*; Footprint: Diode_SMD:D_SMA; Supplier: https://www.onsemi.com/pub/Collateral/US2AA-D.PDF
footprint D_SMA
pins: 1 K, 2 A

## US2KA
designator *  value US2KA
ki_keywords: Super Fast; ki_description: 800V, 1.5A, General Purpose Rectifier Diode, SMA(DO-214AC); ki_fp_filters: D*SMA*; Footprint: Diode_SMD:D_SMA; Supplier: https://www.onsemi.com/pub/Collateral/US2AA-D.PDF
footprint D_SMA
pins: 1 K, 2 A

## US2MA
designator *  value US2MA
ki_keywords: Super Fast; ki_description: 1000V, 1.5A, General Purpose Rectifier Diode, SMA(DO-214AC); ki_fp_filters: D*SMA*; Footprint: Diode_SMD:D_SMA; Supplier: https://www.onsemi.com/pub/Collateral/US2AA-D.PDF
footprint D_SMA
pins: 1 K, 2 A

## VS-6ESU06
designator *  value VS-6ESU06
ki_keywords: diode fred; ki_description: 600V 6.0A Ultrafast Rectifier, TO-277A; ki_fp_filters: TO?277A*; Footprint: Package_TO_SOT_SMD:TO-277A; Supplier: https://www.vishay.com/docs/94987/vs-6esu06hm3.pdf
footprint TO-277A
pins: 1 A, 2 A hidden, 3 K

## Z1SMAxxx
designator *  value Z1SMAxxx
ki_keywords: zener diode; ki_description: 1000mW Zener Diode, SMA(DO-214AC); ki_fp_filters: D?SMA*; Footprint: Diode_SMD:D_SMA; Supplier: https://diotec.com/tl_files/diotec/files/pdf/datasheets/z1sma1.pdf
footprint D_SMA
pins: 1 K, 2 A

## Z2SMBxxx
designator *  value Z2SMBxxx
ki_keywords: zener diode; ki_description: 2000mW Zener Diode, SMB(DO-214AA); ki_fp_filters: D?SMB*; Footprint: Diode_SMD:D_SMB; Supplier: https://diotec.com/tl_files/diotec/files/pdf/datasheets/z2smb1.pdf
footprint D_SMB
pins: 1 K, 2 A

## Z3SMCxxx
designator *  value Z3SMCxxx
ki_keywords: zener diode; ki_description: 3000mW Zener Diode, SMC(DO-214AB); ki_fp_filters: D?SMC*; Footprint: Diode_SMD:D_SMC; Supplier: https://diotec.com/tl_files/diotec/files/pdf/datasheets/z3smc1.pdf
footprint D_SMC
pins: 1 K, 2 A

## ZMDxx
designator *  value ZMDxx
ki_keywords: zener diode; ki_description: 1000mW Zener Diode, MiniMELF; ki_fp_filters: D*MiniMELF*; Footprint: Diode_SMD:D_MiniMELF; Supplier: http://diotec.com/tl_files/diotec/files/pdf/datasheets/zmd1
footprint D_MiniMELF
pins: 1 K, 2 A

## ZMMxx
designator *  value ZMMxx
ki_keywords: zener diode; ki_description: 500mW Zener Diode, MiniMELF; ki_fp_filters: D*MiniMELF*; Footprint: Diode_SMD:D_MiniMELF; Supplier: https://diotec.com/tl_files/diotec/files/pdf/datasheets/zmm1.pdf
footprint D_MiniMELF
pins: 1 K, 2 A

## ZMYxx
designator *  value ZMYxx
ki_keywords: zener diode; ki_description: 1300mW Zener Diode, MELF; ki_fp_filters: D*MELF*; Footprint: Diode_SMD:D_MELF; Supplier: https://www.vishay.com/docs/85788/zmy3v9.pdf
footprint D_MELF
pins: 1 K, 2 A

## ZPDxx
designator *  value ZPDxx
ki_keywords: zener diode; ki_description: 500mW Zener Diode, DO-35; ki_fp_filters: D*DO?35*; Footprint: Diode_THT:D_DO-35_SOD27_P10.16mm_Horizontal; Supplier: http://diotec.com/tl_files/diotec/files/pdf/datasheets/zpd1
footprint D_DO-35_SOD27_P10.16mm_Horizontal
pins: 1 K, 2 A

## ZPYxx
designator *  value ZPYxx
ki_keywords: zener diode; ki_description: 1300mW Zener Diode, DO-41; ki_fp_filters: D*DO?41*; Footprint: Diode_THT:D_DO-41_SOD81_P10.16mm_Horizontal; Supplier: http://www.vishay.com/docs/85790/zpy3v9.pdf
footprint D_DO-41_SOD81_P10.16mm_Horizontal
pins: 1 K, 2 A

## ZYxxx
designator *  value ZYxxx
ki_keywords: zener diode; ki_description: 2000mW Zener Diode, DO-41; ki_fp_filters: D*DO?41*; Footprint: Diode_THT:D_DO-41_SOD81_P10.16mm_Horizontal; Supplier: https://diotec.com/tl_files/diotec/files/pdf/datasheets/zy1
footprint D_DO-41_SOD81_P10.16mm_Horizontal
pins: 1 K, 2 A